# EAGLE library part TPS6123* (library XLibrary)
TPS61230 High Efficiency Synchronous Boost Converter With 5-A Switch http://www.ti.com/lit/ds/symlink/tps61230.pdf
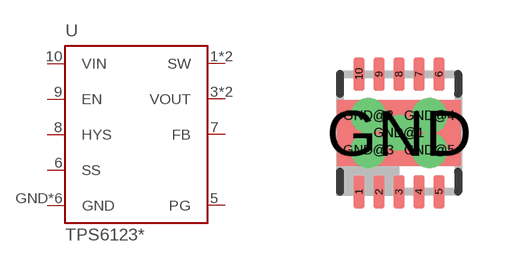
[diagram p3: symbol with the pads of DRC-S-PVSON-N11; footprint DRC-S-PVSON-N11]

Designator prefix -

## TPS61230 (MFN: TPS61230DRC), TPS61231 (MFN: TPS61231DRC), TPS61232 (MFN: TPS61232DRC)  [DRC-S-PVSON-N11]
1  SW  in
2  SW  in
3  VOUT  out
4  VOUT  out
5  PG  out
6  SS  in
7  FB  in
8  HYS  out
9  EN  in
10  VIN  pwr
GND  GND  pwr
GND@1  GND  pwr
GND@2  GND  pwr
GND@3  GND  pwr
GND@4  GND  pwr
GND@5  GND  pwr

## Footprint DRC-S-PVSON-N11 (pad centres in mm)
SON50P300X300X100-11N
smd 0.28 x 0.85: 1 -1,-1.475; 2 -0.5,-1.475; 3 0,-1.475; 4 0.5,-1.475; 5 1,-1.475; 6 1,1.475; 7 0.5,1.475; 8 0,1.475; 9 -0.5,1.475; 10 -1,1.475
smd 3.099 x 1.65: GND 0,0
drill 0.381 pad 0.559: GND@1 0,0; GND@2 -0.762,0.432; GND@3 -0.762,-0.432; GND@4 0.762,0.432; GND@5 0.762,-0.432